# Altium footprint library 1645RT2UvsFM28V020.PcbLib: 1 footprints
Each footprint in its own frame and in the unit in brackets; x right, y up, seen from the top. Pads: shape width x height; smd on the part's side, far side on the other; paste and mask are expansions set on the pad; w line width, h text height; cw(c..) or ccw(c..) is an arc to the next point about the centre after c.
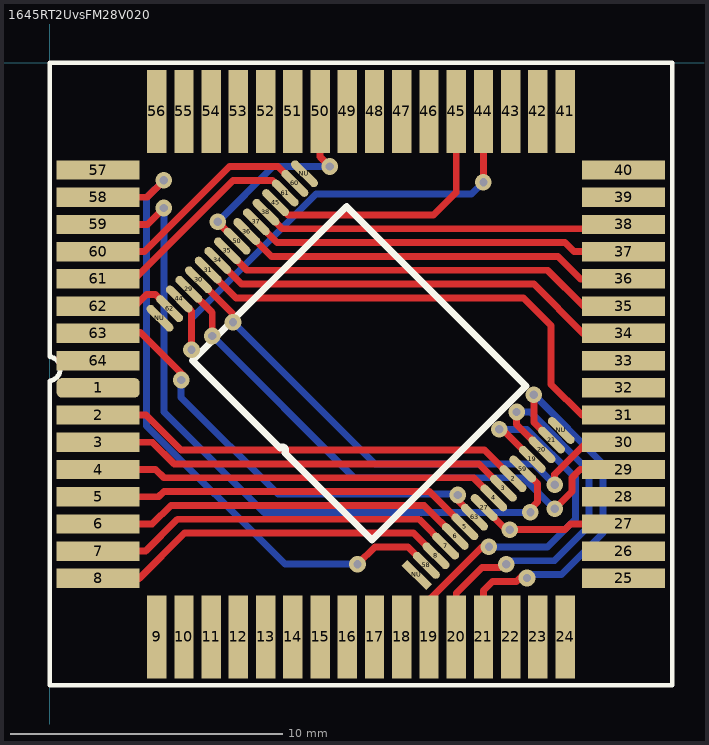
[diagram p0: the footprint, top view; thin cyan lines are the x and y axes]

## 1645RT2UvsFM28V020 [mil]
pads (96):
  rrect50% 120x28 smd: 1(70,-470)
  rect 120x28 smd: 2(70,-509.37) 3(70,-548.74) 4(70,-588.11) 5(70,-627.48) 6(70,-666.85) 7(70,-706.22) 8(70,-745.59) 25(829.84,-745.59) 26(829.84,-706.22) 27(829.84,-666.85) 28(829.84,-627.48) 29(829.84,-588.11) 30(829.84,-548.74) 31(829.84,-509.37) 32(829.84,-470) 33(829.84,-430.63) 34(829.84,-391.26) 35(829.84,-351.89) 36(829.84,-312.52) 37(829.84,-273.15) 38(829.84,-233.78) 39(829.84,-194.41) 40(829.84,-155.04) 57(70,-155.04) 58(70,-194.41) 59(70,-233.78) 60(70,-273.15) 61(70,-312.52) 62(70,-351.89) 63(70,-391.26) 64(70,-430.63)
  oval 50x12 smd rot 135: 2(669.91,-601.31) 3(655.98,-615.24) 4(642.05,-629.17) 5(600.26,-670.96) 6(586.33,-684.89) 7(572.4,-698.82) 8(558.47,-712.75) 19(697.77,-573.45) 20(711.7,-559.52) 21(725.63,-545.59) 27(628.12,-643.1) 29(201.17,-327.59) 30(215.1,-313.66) 31(229.03,-299.73) 34(242.96,-285.8) 35(256.89,-271.87) 36(284.75,-244.01) 37(298.68,-230.08) 38(312.61,-216.15) 44(187.24,-341.52) 45(326.54,-202.22) 50(270.82,-257.94) 58(544.54,-726.68) 59(683.84,-587.38) 60(354.4,-174.36) 61(340.47,-188.29) 62(173.31,-355.45) 63(614.19,-657.03) NU(159.38,-369.38) NU(368.33,-160.43) NU(739.56,-531.66)
  rect 28x120 smd: 9(154.65,-830.24) 10(194.02,-830.24) 11(233.39,-830.24) 12(272.76,-830.24) 13(312.13,-830.24) 14(351.5,-830.24) 15(390.87,-830.24) 16(430.24,-830.24) 17(469.61,-830.24) 18(508.98,-830.24) 19(548.35,-830.24) 20(587.72,-830.24) 21(627.09,-830.24) 22(666.46,-830.24) 23(705.83,-830.24) 24(745.2,-830.24) 41(745.2,-70.39) 42(705.83,-70.39) 43(666.46,-70.39) 44(627.09,-70.39) 45(587.72,-70.39) 46(548.35,-70.39) 47(508.98,-70.39) 48(469.61,-70.39) 49(430.24,-70.39) 50(390.87,-70.39) 51(351.5,-70.39) 52(312.13,-70.39) 53(272.76,-70.39) 54(233.39,-70.39) 55(194.02,-70.39) 56(154.65,-70.39)
  rect 50x12 smd rot 135: NU(530.61,-740.61)
via 165,-210 diameter 24 hole 12
via 165,-170 diameter 24 hole 12
via 445,-725 diameter 24 hole 12
via 590,-625 diameter 24 hole 12
via 635,-700 diameter 24 hole 12
via 730,-610 diameter 24 hole 12
via 730,-645 diameter 24 hole 12
via 235,-395 diameter 24 hole 12
via 205,-415 diameter 24 hole 12
via 265,-375 diameter 24 hole 12
via 627.09,-172.91 diameter 24 hole 12
via 650,-530 diameter 24 hole 12
via 675,-505 diameter 24 hole 12
via 700,-480 diameter 24 hole 12
via 242.88,-230 diameter 24 hole 12
via 405,-150 diameter 24 hole 12
via 665,-675 diameter 24 hole 12
via 695,-650 diameter 24 hole 12
via 190,-458.74 diameter 24 hole 12
via 690,-745 diameter 24 hole 12
via 660,-725 diameter 24 hole 12
Top Layer:
  lines w10: 70,-745.59 129.41,-745.59 195,-680 525.72,-680 558.47,-712.75 ; 70,-706.22 138.78,-706.22 185,-660 533.58,-660 572.4,-698.82 ; 70,-666.85 148.15,-666.85 175,-640 541.44,-640 586.33,-684.89 ; 70,-627.48 157.52,-627.48 165,-620 549.3,-620 600.26,-670.96 ; 70,-588.11 153.11,-588.11 165,-600 612.88,-600 642.05,-629.17 ; 70,-548.74 148.74,-548.74 180,-580 620.74,-580 655.98,-615.24 ; 70,-509.37 139.37,-509.37 190,-560 628.6,-560 669.91,-601.31 ; 70,-390 131.26,-390 195,-453.74 ; 70,-351.89 123.11,-351.89 140,-335 152.86,-335 173.31,-355.45 ; 70,-312.52 122.48,-312.52 265,-170 322.18,-170 340.47,-188.29 ; 70,-273.15 136.85,-273.15 260,-150 330.04,-150 354.4,-174.36 ; 70,-233.78 141.22,-233.78 165,-210 ; 70,-194.41 140.59,-194.41 165,-170 ; 187.24,-341.52 205,-359.28 205,-415 ; 201.17,-327.59 235,-361.42 235,-395 ; 215.1,-313.66 265,-363.56 265,-375 ; 229.03,-299.73 269.3,-340 685,-340 725,-380 725,-465 769.37,-509.37 829.84,-509.37 ; 242.88,-230 270.82,-257.94 ; 242.96,-285.8 277.16,-320 700,-320 771.26,-391.26 829.84,-391.26 ; 256.89,-271.87 285.02,-300 720,-300 771.89,-351.89 829.84,-351.89 ; 284.75,-244.01 320.74,-280 735,-280 767.52,-312.52 829.84,-312.52 ; 298.68,-230.08 328.6,-260 745,-260 758.15,-273.15 829.84,-273.15 ; 312.61,-216.15 336.46,-240 823.62,-240 829.84,-233.78 ; 326.54,-202.22 344.32,-220 555,-220 587.72,-187.28 587.72,-70.39 ; 390.87,-70.39 390.87,-135.87 405,-150 ; 445,-725 470,-700 517.86,-700 544.54,-726.68 ; 548.35,-830.24 548.35,-776.65 625,-700 635,-700 ; 587.72,-830.24 587.72,-767.28 625,-730 650,-730 660,-720 ; 590,-625 590,-632.84 614.19,-657.03 ; 627.09,-830.24 627.09,-762.91 640,-750 675,-750 685,-740 ; 627.09,-172.91 627.09,-70.39 ; 628.12,-643.1 660.02,-675 745,-675 753.15,-666.85 829.84,-666.85 ; 652.16,-527.84 697.77,-573.45 ; 675,-505 675,-522.82 711.7,-559.52 ; 683.84,-587.38 705,-608.54 705,-635 695,-645 695,-650 ; 700,-480 700,-519.96 725.63,-545.59 ; 730,-645 755,-620 755,-600 766.89,-588.11 829.84,-588.11 ; 730,-610 730,-595 776.26,-548.74 829.84,-548.74
Bottom Layer:
  lines w10: 165,-210 165,-505 310,-650 695,-650 ; 165,-170 140,-195 140,-525 340,-725 445,-725 ; 190,-458.74 190,-483.74 330,-623.74 590,-623.74 ; 205,-415 205,-370 385,-190 610,-190 627.09,-172.91 ; 235,-395 440,-600 685,-600 730,-645 ; 242.88,-230 322.88,-150 405,-150 ; 265,-375 470,-580 700,-580 730,-610 ; 635,-700 720,-700 760,-660 760,-600 690,-530 650,-530 ; 660,-720 730,-720 780,-670 780,-590 695,-505 675,-505 ; 685,-740 740,-740 800,-680 800,-580 700,-480
Top Overlay:
  lines w6: 0,-460 0,-675 0,-900 900,-900 900,0 0,0 0,-425
  lines w7: 0,-460 ccw(c-2.5,-442.5) 15,-440 ; 0,-425 cw(c-2.5,-442.5) 15,-445
  lines w10: 206.5,-430.43 429.38,-207.55 688.89,-467.06 466.01,-689.94 339.74,-563.67 ccw(c336.26,-560.19) 332.78,-556.71 206.5,-430.43
3D body: height 60, standoff 0, extent 169.98,-730 728.6,-171.39
3D body: height 126, standoff 7, extent 90,-810 805,-90